# EAGLE library part 4-1462037-2 (library Relays)
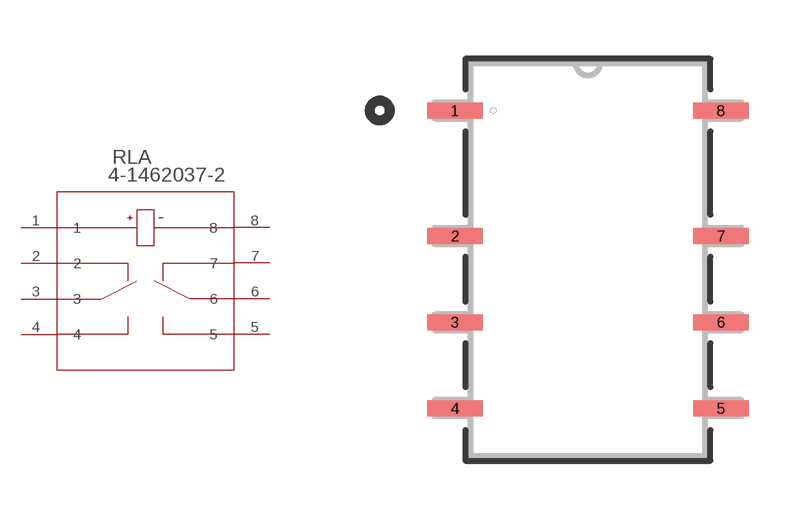
[diagram p17: symbol with the pads of RELAY8_SMTGUL; footprint RELAY8_SMTGUL]

Designator prefix RLA

## 4-1462037-2 (BUILT_BY: EMA_UL_Team; CATEGORY: Signal Relays; CONTACT_ARRANGEMENT: 2 Form C (CO); COPYRIGHT: Copyright (C) 2016 Accelerated Designs. All rights reserved; DESCRIPTION: IM04GR=IM RELAY 140 MW 6 V; MANUFACTURER_PART_NUMBER: 4-1462037-2; MAXIMUM_SWITCHING_CURRENT: -; MAXIMUM_SWITCHING_VOLTAGE: -; PART_STATUS: active; PRODUCT_TYPE: Relay; RELAY_TYPE: IM Relay; SERIES: Axicom IM; TE_PART_NUMBER: IM04GR (4-1462037-2); VENDOR: TE Connectivity)  [RELAY8_SMTGUL]
1  1  pas
2  2  pas
3  3  pas
4  4  pas
5  5  pas
6  6  pas
7  7  pas
8  8  pas

## Footprint RELAY8_SMTGUL (pad centres in mm)
smd 1.422 x 0.406: 1 -3.391,3.804; 2 -3.391,0.604; 3 -3.391,-1.596; 4 -3.391,-3.796; 5 3.391,-3.796; 6 3.391,-1.596; 7 3.391,0.604; 8 3.391,3.804